# EAGLE library part LM2854 (library GW-devices)
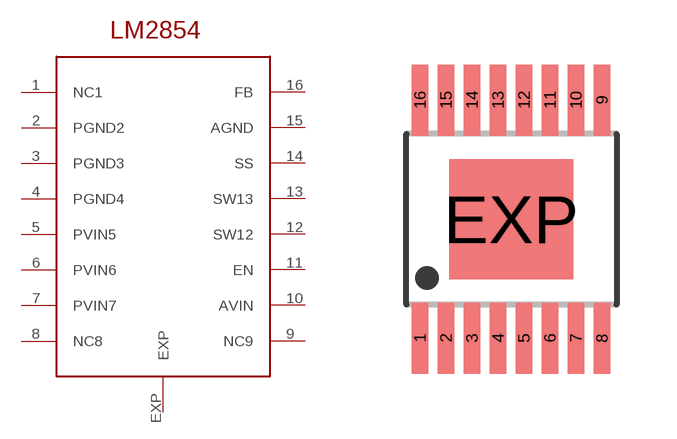
[diagram p47: symbol with the pads of HTSSOP16PWP; footprint HTSSOP16PWP]

Designator prefix -

## LM2854MH  [HTSSOP16PWP]
1  NC1
2  PGND2
3  PGND3
4  PGND4
5  PVIN5
6  PVIN6
7  PVIN7
8  NC8
9  NC9
10  AVIN
11  EN
12  SW12
13  SW13
14  SS
15  AGND
16  FB
EXP  EXP

## Footprint HTSSOP16PWP (pad centres in mm)
TPS40055PWP (R-PDSO-G**) PowerPAD (TM) 16 pol. PLASTIC SMALL-OUTLINE PACKAGE Source: www.ti.com ... TPS40055 package.pdf & slma002.pdf
smd 0.42 x 1.78: 1 -2.275,-2.975; 2 -1.625,-2.975; 3 -0.975,-2.975; 4 -0.325,-2.975; 5 0.325,-2.975; 6 0.975,-2.975; 7 1.625,-2.975; 8 2.275,-2.975; 9 2.275,2.975; 10 1.625,2.975; 11 0.975,2.975; 12 0.325,2.975; 13 -0.325,2.975; 14 -0.975,2.975; 15 -1.625,2.975; 16 -2.275,2.975
smd 3.1 x 3: EXP 0,0